# EAGLE library part RFPIC12F675 (library rfPIC)
Microchip 12F675 PIC Microcontroller with rf transmitter
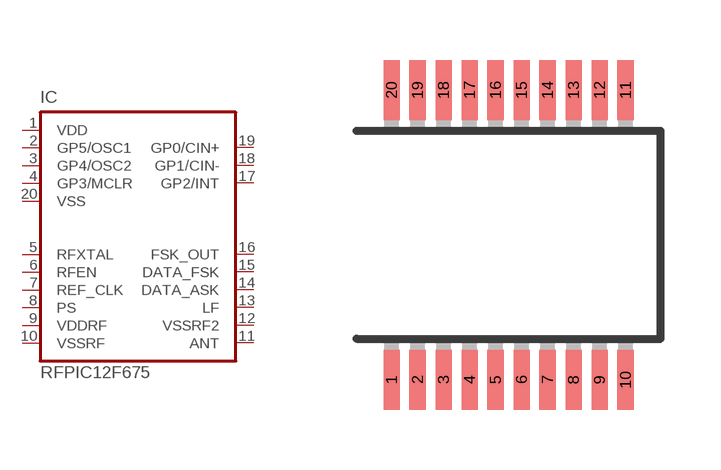
[diagram p0: symbol with the pads of SOIC20; footprint SOIC20]

Designator prefix IC

## RFPIC12F675  [SOIC20]
1  VDD  pwr
2  GP5/OSC1
3  GP4/OSC2
4  GP3/MCLR
5  RFXTAL  in
6  RFEN  in
7  REF_CLK
8  PS
9  VDDRF  pwr
10  VSSRF  pwr
11  ANT  out
12  VSSRF2  pwr
13  LF
14  DATA_ASK  in
15  DATA_FSK  in
16  FSK_OUT  out
17  GP2/INT
18  GP1/CIN-
19  GP0/CIN+
20  VSS  pwr

## Footprint SOIC20 (pad centres in mm)
20 Pin Small Outline IC Package. Source: http://www.microchip.com
smd 0.4 x 1.5: 1 -2.925,-3.625; 2 -2.275,-3.625; 3 -1.625,-3.625; 4 -0.975,-3.625; 5 -0.325,-3.625; 6 0.325,-3.625; 7 0.975,-3.625; 8 1.625,-3.625; 9 2.275,-3.625; 10 2.925,-3.625; 11 2.925,3.625; 12 2.275,3.625; 13 1.625,3.625; 14 0.975,3.625; 15 0.325,3.625; 16 -0.325,3.625; 17 -0.975,3.625; 18 -1.625,3.625; 19 -2.275,3.625; 20 -2.925,3.625